# Altium schematic symbol library SCH - Interface - MCP2515-I_SO.SchLib: 1 symbol
Pins are listed as number, name and electrical type; pins without a type are passive.

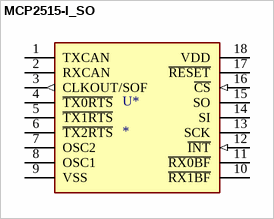
[diagram p0: symbol MCP2515-I_SO]

## MCP2515-I_SO
designator U*
pins: 1 TXCAN, 2 RXCAN, 3 CLKOUT/SOF (out), 4 ~{TX0RTS}, 5 ~{TX1RTS}, 6 ~{TX2RTS}, 7 OSC2, 8 OSC1, 9 VSS (power), 10 ~{RX1BF}, 11 ~{RX0BF}, 12 ~{INT} (in), 13 SCK, 14 SI, 15 SO, 16 ~{CS} (in), 17 ~{RESET}, 18 VDD (power)